# Altium footprint library Phoenix Contact 1720466.PcbLib: 1 footprints
Each footprint in its own frame and in the unit in brackets; x right, y up, seen from the top. Pads: shape width x height; smd on the part's side, far side on the other; paste and mask are expansions set on the pad; w line width, h text height; cw(c..) or ccw(c..) is an arc to the next point about the centre after c.
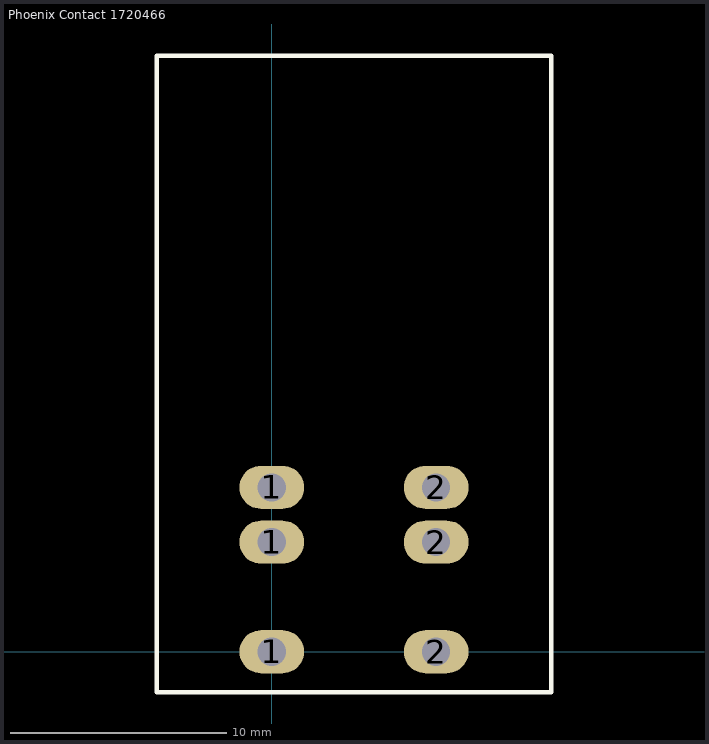
[diagram p0: the footprint, top view; thin cyan lines are the x and y axes]

## Phoenix Contact 1720466 [mm] "Digikey: 277-6070-ND / MFG: 1720466"
pads (6):
  oval 3x2 hole 1.3: 1(0,0) 1(0,5.08) 1(0,7.62) 2(7.62,0) 2(7.62,5.08) 2(7.62,7.62)
Top Overlay:
  lines w0.2: -5.325,-1.875 -5.325,27.625 12.95,27.625 12.95,-1.02 12.95,-1.875 -5.325,-1.875
3D body "1720466_02.stp": height 14.26, standoff -4.95, extent -5.21,-1.778 12.83,27.472